# EAGLE library part KF140UD1208 (library ic-alfa-rpar)
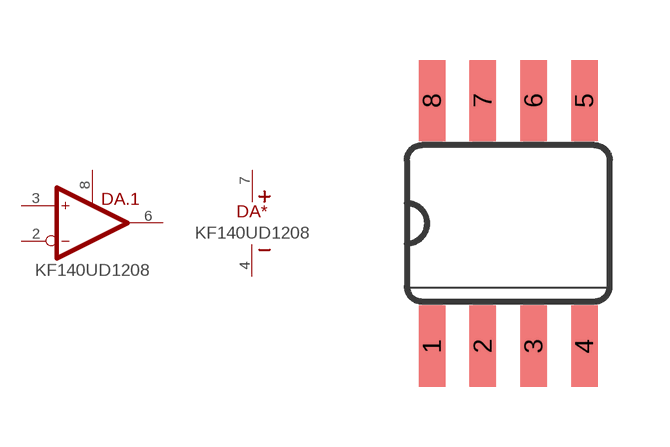
[diagram p1: symbol with the pads of SO-8; footprint SO-8]

Designator prefix DA; gates .1=OPAMP-ISET *=SUPPLY

## KF140UD1208  [SO-8]
2  .1:IN-  in
3  .1:IN+  in
4  *:V-  pwr
6  .1:OUT  out
7  *:V+  pwr
8  .1:ISET

## Footprint SO-8 (pad centres in mm)
smd 0.66 x 2.032: 1 -1.905,-3.073; 2 -0.635,-3.073; 3 0.635,-3.073; 4 1.905,-3.073; 5 1.905,3.073; 6 0.635,3.073; 7 -0.635,3.073; 8 -1.905,3.073